# Altium schematic symbol library CD1206-B2100 v1.SCHLIB: 1 symbol
Pins are listed as number, name and electrical type; pins without a type are passive.

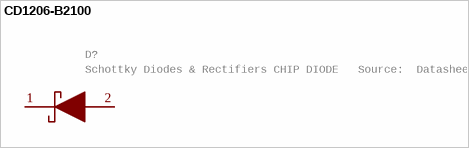
[diagram p0: symbol CD1206-B2100]

## CD1206-B2100
designator D?, comment Schottky Diodes & Rectifiers CHIP DIODE   Source:  Datasheet
MANUFACTURER_NAME: Bourns; GateName_1: G$1; SymbolName_1: CD1206-B2100; LibraryName: CD1206-B2100 v1; DeviceSetName: CD1206-B2100; Package: DIOC3419X116N; DESCRIPTION: Schottky Diodes & Rectifiers CHIP DIODE; HEIGHT: 1.16mm; MANUFACTURER_PART_NUMBER: CD1206-B2100; MOUSER_PART_NUMBER: 652-CD1206-B2100; MOUSER_PRICE-STOCK: https://www.mouser.co.uk/ProductDetail/Bourns/CD1206-B2100?qs=VNGG2InBe5EQUAtP9HPU9g%3D%3D
footprint DIOC3419X116N
pins: 1 K (io), 2 A (io)